# EAGLE library part DUALGANG (library potentiometers)
Dual-Gan Potentiometers
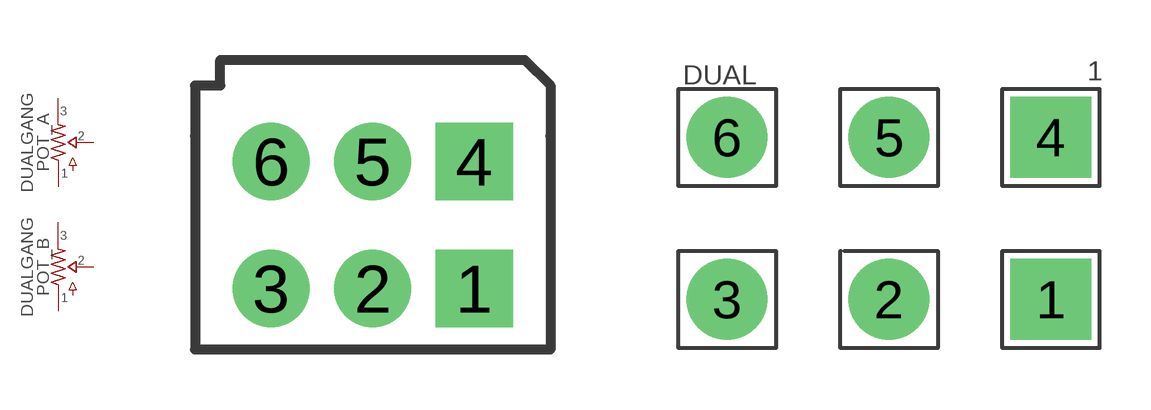
[diagram p0: symbol with the pads of 9MM_DUALGANG; footprints 9MM_DUALGANG, 16MM_DUALGANG]

Designator prefix POT; gates _A=POT _B=POT

## DUALGANG.1  [9MM_DUALGANG]
1  _A:1  pas
2  _A:2  pas
3  _A:3  pas
4  _B:1  pas
5  _B:2  pas
6  _B:3  pas

## DUALGANG.2  [16MM_DUALGANG]
Pads as for 9MM_DUALGANG

## Footprint 9MM_DUALGANG (pad centres in mm)
9mm / PC Mount / Dual-Gang http://smallbear-electronics.mybigcommerce.com/alpha-dual-gang-9mm-pc-mount/
drill 1.1 pad 1.93 square: 1 2.54,0; 4 2.54,3.175
drill 1.1 pad 1.93: 2 0,0; 3 -2.54,0; 5 0,3.175; 6 -2.54,3.175

## Footprint 16MM_DUALGANG (pad centres in mm)
16mm / Right-Angle / PC Mount / Dual-Gang http://smallbear-electronics.mybigcommerce.com/alpha-dual-gang-16mm-pc-mount/
drill 1.4 pad 2.54 square: 1 5.08,0; 4 5.08,5.08
drill 1.4 pad 2.54: 2 0,0; 3 -5.08,0; 5 0,5.08; 6 -5.08,5.08